# Altium schematic symbol library BC857.SchLib: 1 symbol
Pins are listed as number, name and electrical type; pins without a type are passive.

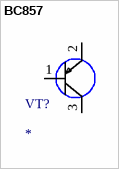
[diagram p0: symbol BC857]

## BC857
designator VT?
footprint On_Semiconductor_318-08_IPC_C
pins: 1 B, 2 E, 3 C